# EAGLE library part 74AC163M (library xess)
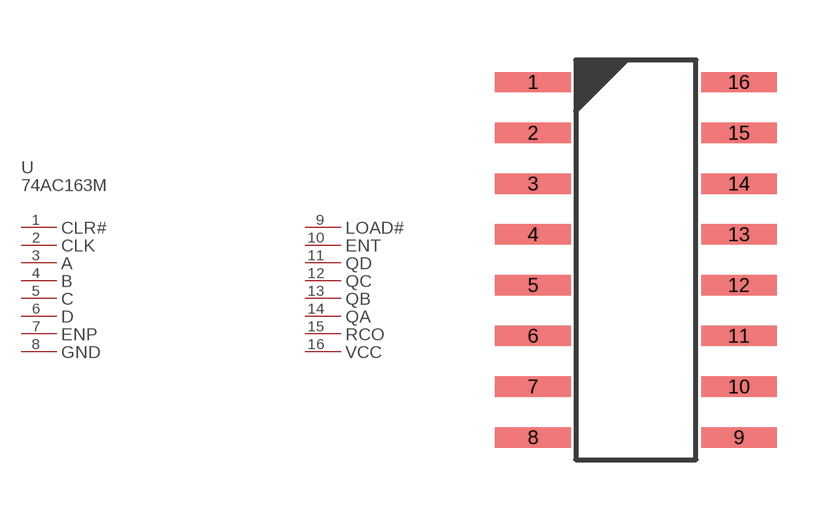
[diagram p117: symbol with the pads of 74AC163M; footprint 74AC163M]

Designator prefix U; gates PART_VALUE=PART_VALUE-74AC163M CLR#=PL-74AC163M CLK=PL-74AC163M A=PL-74AC163M B=PL-74AC163M C=PL-74AC163M D=PL-74AC163M ENP=PL-74AC163M GND=PL-74AC163M LOAD#=PL-74AC163M ENT=PL-74AC163M QD=PL-74AC163M QC=PL-74AC163M QB=PL-74AC163M QA=PL-74AC163M RCO=PL-74AC163M VCC=PL-74AC163M

## 74AC163M  [74AC163M]
1  CLR#:P$1
2  CLK:P$1
3  A:P$1
4  B:P$1
5  C:P$1
6  D:P$1
7  ENP:P$1
8  GND:P$1
9  LOAD#:P$1
10  ENT:P$1
11  QD:P$1
12  QC:P$1
13  QB:P$1
14  QA:P$1
15  RCO:P$1
16  VCC:P$1

## Footprint 74AC163M (pad centres in mm)
smd 1.89 x 0.51: 1 -0.11,0; 2 -0.11,-1.27; 3 -0.11,-2.54; 4 -0.11,-3.81; 5 -0.11,-5.08; 6 -0.11,-6.35; 7 -0.11,-7.62; 8 -0.11,-8.89; 9 5.04,-8.89; 10 5.04,-7.62; 11 5.04,-6.35; 12 5.04,-5.08; 13 5.04,-3.81; 14 5.04,-2.54; 15 5.04,-1.27; 16 5.04,0